# EAGLE library part ROTARY-ENCODER-SMD (library Feesta-parts)
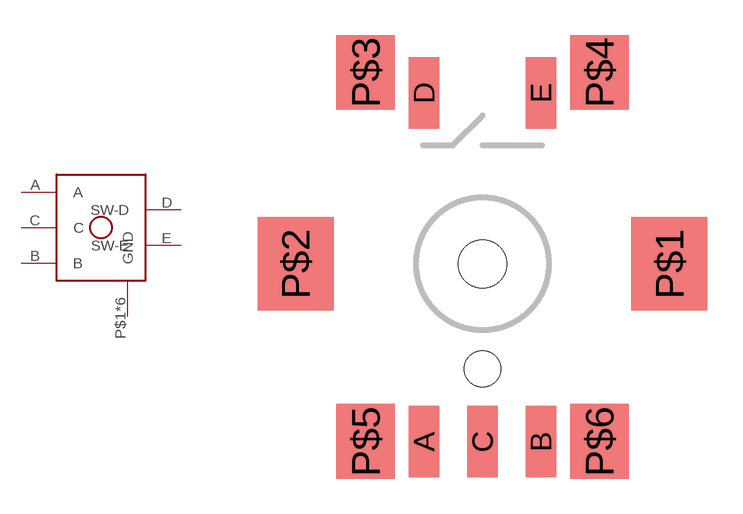
[diagram p1: symbol with the pads of ROTARY-ENCODER-PEC11S; footprint ROTARY-ENCODER-PEC11S]

Designator prefix -

## ROTARY-ENCODER-SMD  [ROTARY-ENCODER-PEC11S]
A  A
B  B
C  C
D  SW-D
E  SW-E
P$1  GND
P$2  GND
P$3  GND
P$4  GND
P$5  GND
P$6  GND

## Footprint ROTARY-ENCODER-PEC11S (pad centres in mm)
smd 1.3 x 3.048: A -2.5,-7.617; B 2.5,-7.617; C 0,-7.617; D -2.5,7.317; E 2.5,7.317
smd 3.25 x 4: P$1 8,0; P$2 -8,0
smd 2.5 x 3.2: P$3 -5,8.2; P$4 5,8.2; P$5 -5,-7.6; P$6 5,-7.6
hole 2.05 at 0,0
hole 1.55 at 0,-4.5